# Altium schematic symbol library 3pin-molex.SchLib: 1 symbol
Pins are listed as number, name and electrical type; pins without a type are passive.

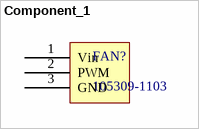
[diagram p0: symbol Component_1]

## Component_1
designator FAN?, comment 105309-1103
Nano-Fit Vertical Header, Through Hole, 2.50mm Pitch, Single Row, 3 Circuits, with Kinked Pins, Tin (Sn) Plating, Black
footprint FAN? (3pin molex nanonfit)
pins: 1 Vin, 2 PWM, 3 GND